# Altium footprint library HARWIN_M80-6661642.PcbLib: 1 footprints
Each footprint in its own frame and in the unit in brackets; x right, y up, seen from the top. Pads: shape width x height; smd on the part's side, far side on the other; paste and mask are expansions set on the pad; w line width, h text height; cw(c..) or ccw(c..) is an arc to the next point about the centre after c.
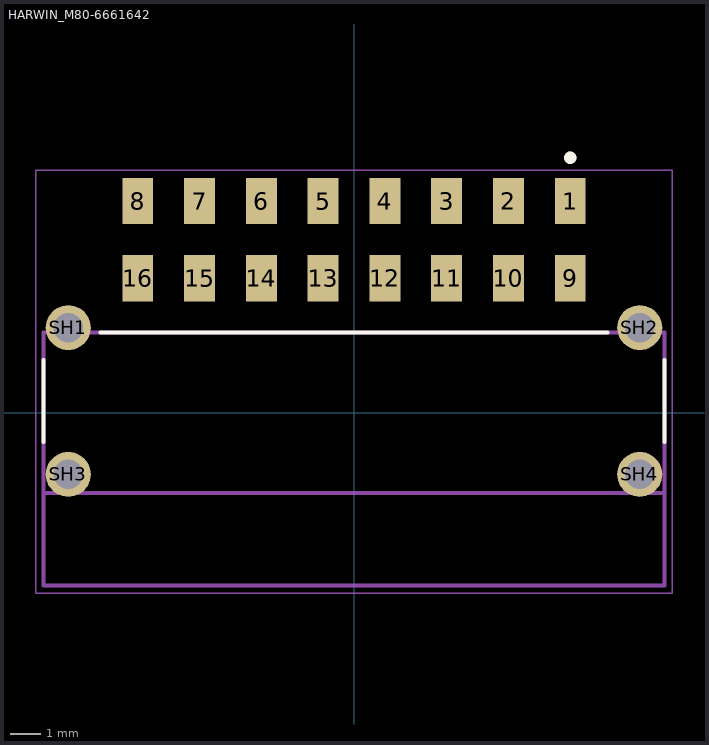
[diagram p0: the footprint, top view; thin cyan lines are the x and y axes]

## HARWIN_M80-6661642 [mm]
pads (20):
  rect 1x1.5 smd: 1(7,6.85) 2(5,6.85) 3(3,6.85) 4(1,6.85) 5(-1,6.85) 6(-3,6.85) 7(-5,6.85) 8(-7,6.85) 9(7,4.35) 10(5,4.35) 11(3,4.35) 12(1,4.35) 13(-1,4.35) 14(-3,4.35) 15(-5,4.35) 16(-7,4.35)
  round 1.458 hole 0.95: SH1(-9.25,2.75) SH2(9.25,2.75) SH3(-9.25,-2) SH4(9.25,-2)
Top Overlay:
  circle w0.2: c7,8.25 r0.1
  lines w0.127: -10.05,-0.95 -10.05,1.7 ; -8.2,2.6 8.2,2.6 ; 10.05,-0.95 10.05,1.7
Assembly Top:
  circle w0.2: c7,8.25 r0.1
  lines w0.127: -10.05,-2.6 10.05,-2.6 ; -10.05,-2.6 -10.05,2.6 10.05,2.6 10.05,-2.6 ; -10.05,-2.6 -10.05,-5.6 10.05,-5.6 10.05,-2.6
Courtyard Top:
  lines w0.05: -10.3,-5.85 10.3,-5.85 10.3,7.85 -10.3,7.85 -10.3,-5.85
3D body "m80-6661642.stp": height 5.77, standoff -3.13, extent -9.95,-5.88 9.95,7.07